# EAGLE library part MAX16054 (library Kuga2_parts)
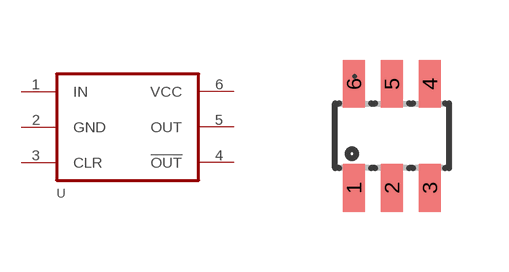
[diagram p0: symbol with the pads of SOT23-6L; footprint SOT23-6L]

Designator prefix -

## MAX16054 (VALUE: MAX16054)  [SOT23-6L]
1  IN
2  GND
3  CLR
4  !OUT
5  OUT
6  VCC

## Footprint SOT23-6L (pad centres in mm)
Small Outline Transistor
smd 0.55 x 1.2: 1 -0.95,-1.3; 2 0,-1.3; 3 0.95,-1.3; 4 0.95,1.3; 5 0,1.3; 6 -0.95,1.3